# Altium footprint library BH800S.PcbLib: 1 footprints
Each footprint in its own frame and in the unit in brackets; x right, y up, seen from the top. Pads: shape width x height; smd on the part's side, far side on the other; paste and mask are expansions set on the pad; w line width, h text height; cw(c..) or ccw(c..) is an arc to the next point about the centre after c.
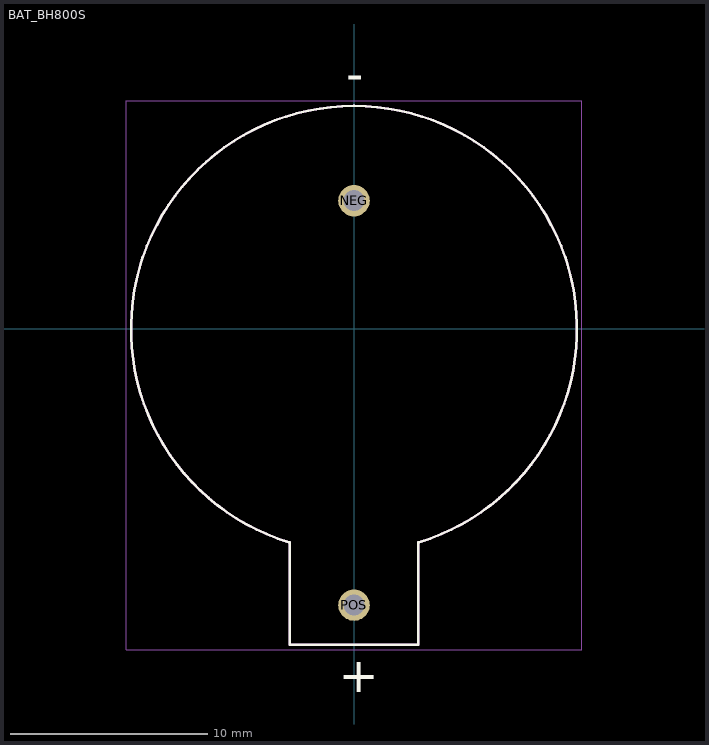
[diagram p0: the footprint, top view; thin cyan lines are the x and y axes]

## BAT_BH800S [mil]
pads (2):
  round 63 hole 42: NEG(0,255.91) POS(0,-551.18)
Top Overlay:
  lines w5: -130.14,-425.7 cw(c-0.01,-0.03) -0.01,445.08 cw(c0.01,-0.03) 130.14,-425.7 ; -128.54,-426.18 -128.54,-630.12 128.54,-630.12 128.54,-426.18
  text "+" at -30,-725 h70
  text "-" at -15,475 h70
Mechanical 13:
  lines w5: -130.14,-425.7 cw(c-0.01,-0.03) -0.01,445.08 cw(c0.01,-0.03) 130.14,-425.7 ; -128.54,-426.18 -128.54,-630.12 128.54,-630.12 128.54,-426.18
  text "+" at -30,-725 h70
  text "-" at -15,475 h70
Mechanical 15:
  lines w1.97: -454.92,-639.96 454.92,-639.96 454.92,454.92 -454.92,454.92 -454.92,-639.96
3D body "BH800S--3DModel-STEP-56544.STEP": height 450, standoff -174, extent -444.99,-630 445,445